# Altium footprint library MDBU014A.PcbLib: 53 footprints (part 4 of 4)
Each footprint in its own frame and in the unit in brackets; x right, y up, seen from the top. Pads: shape width x height; smd on the part's side, far side on the other; paste and mask are expansions set on the pad; w line width, h text height; cw(c..) or ccw(c..) is an arc to the next point about the centre after c.
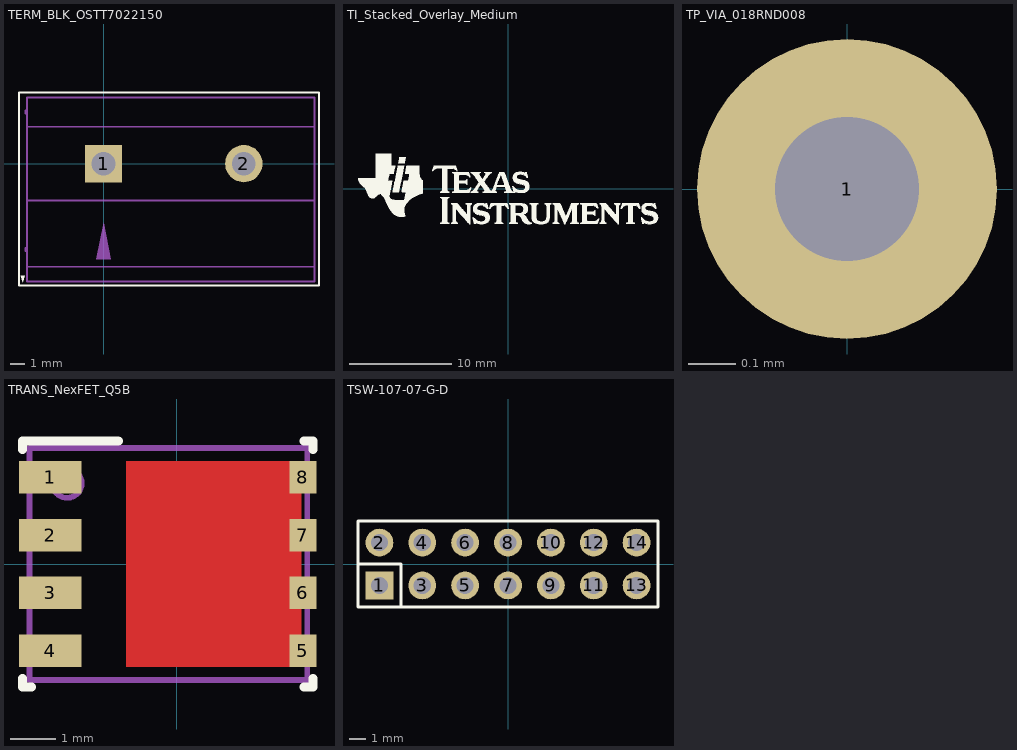
[diagram p3: the footprints below, top view; thin cyan lines are the x and y axes]

## TERM_BLK_OSTT7022150 [mm]
pads (2):
  rect 2.54x2.54 hole 1.6: 1(0,0)
  round 2.54 hole 1.6: 2(9.525,0)
Top Overlay:
  region: -5.483,-8.048 -5.33,-7.616 -5.61,-7.616
  lines w0.127: -5.737,-8.276 14.63,-8.276 14.63,4.83 -5.737,4.83 -5.737,3.941 -5.737,3.103 -5.737,-5.381 -5.737,-6.219 -5.737,-8.276
Mechanical 5:
  circle w0.127: c0,0 r0.4
  circle w0.127: c9.52,0 r0.4
  region: -0.5,-6.5 0,-4 0.5,-6.5
  lines w0.127: -5.2,-7 14.325,-7 ; -5.2,-5.925 -5.3,-5.925 -5.3,-5.725 -5.2,-5.725 ; -5.2,-2.5 14.325,-2.5 ; -5.2,2.5 14.325,2.5 ; -5.2,3.4 -5.3,3.4 -5.3,3.6 -5.2,3.6 ; -5.2,-8 14.325,-8 14.325,4.5 -5.2,4.5 -5.2,-8
  text ".Designator" at 2.845,-0.711 h1.02
3D body: height 0, standoff -4.2, extent 9.024,-0.499 10.02,0.499
3D body: height 0, standoff -4.2, extent -0.496,-0.499 0.5,0.499
3D body: height 11, standoff 0, extent -5.3,3.4 -5.2,3.6
3D body: height 12, standoff 0, extent -5.3,-5.925 -5.2,-5.725
3D body: height 21.5, standoff 0, extent -5.2,-2.5 14.325,2.5
3D body: height 11, standoff 0, extent -5.2,2.5 14.325,4.5
3D body: height 12, standoff 10, extent -5.2,-8 14.325,-2.5
3D body: height 21.6, standoff 1.6, extent -2.232,-2.245 2.25,2.246
3D body: height 21.6, standoff 1.6, extent 7.293,-2.245 11.775,2.246
3D body: height 2, standoff 0, extent -5.195,-8 14.325,-2.5
3D body: height 12, standoff 0, extent -5.2,-8 -2.6,-2.5
3D body: height 12, standoff 0, extent 2.6,-8 4.76,-2.5
3D body: height 12, standoff 0, extent 4.76,-8 6.92,-2.5
3D body: height 12, standoff 0, extent 12.125,-8 14.325,-2.5

## TI_Stacked_Overlay_Medium [mm]
Top Overlay:
  drawing of 18 lines, arcs and shapes, not listed

## TP_VIA_018RND008 [mil]
pads (1):
  round 25 hole 12: 1(0,0)

## TRANS_NexFET_Q5B [mm]
pads (8):
  rect 1.372x0.71 smd paste-0.4: 1(-2.776,1.905) 2(-2.776,0.635) 3(-2.776,-0.635) 4(-2.776,-1.905)
  rect 0.59x0.71 smd paste-0.3: 5(2.776,-1.905) 6(2.776,-0.635) 7(2.776,0.635) 8(2.776,1.905)
Top Layer:
  rectangle: -1.106,-2.26 2.744,2.26
Top Overlay:
  lines w0.2: -3.385,-2.52 -3.385,-2.7 -3.185,-2.7 ; -3.385,2.52 -3.385,2.7 -1.28,2.7 ; 2.8,-2.7 3,-2.7 3,-2.52 ; 2.8,2.7 3,2.7 3,2.52
Top Paste:
  rectangle: 0.723,0.15 2.017,0.896
  region: 0.373,0.896 -0.921,0.896 -0.921,0.15 0.373,0.15
  region: 0.373,-0.15 -0.921,-0.15 -0.921,-0.896 0.373,-0.896
  rectangle: 0.723,-0.896 2.017,-0.15
  region: 0.373,1.942 -0.921,1.942 -0.921,1.196 0.373,1.196
  rectangle: 0.723,1.196 2.017,1.942
  region: 0.373,-1.196 -0.921,-1.196 -0.921,-1.942 0.373,-1.942
  rectangle: 0.723,-1.942 2.017,-1.196
  rectangle: -3.312,1.624 -2.24,2.186
  rectangle: -3.312,0.354 -2.24,0.916
  rectangle: -3.312,-0.916 -2.24,-0.354
  rectangle: -3.312,-2.186 -2.24,-1.624
  rectangle: 2.303,1.651 3.069,2.159
  rectangle: 2.303,0.381 3.069,0.889
  rectangle: 2.303,-0.889 3.069,-0.381
  rectangle: 2.303,-2.159 3.069,-1.651
Mechanical 5:
  circle w0.127: c-2.405,1.775 r0.32
  lines w0.127: -3.23,-2.55 -3.23,2.55 2.875,2.55 2.875,-2.55 -3.23,-2.55
  text ".Designator" at -2.085,-0.505 h1.02
3D body: height 1.05, standoff 0, extent -3.229,-2.549 2.874,2.549
3D body: height 1.06, standoff 1, extent -2.725,1.455 -2.085,2.095

## TSW-107-07-G-D [mm]
pads (14):
  rect 1.65x1.65 hole 1.016 mask+0: 1(-7.62,-1.27)
  round 1.65 hole 1.016 mask+0: 2(-7.62,1.27) 3(-5.08,-1.27) 4(-5.08,1.27) 5(-2.54,-1.27) 6(-2.54,1.27) 7(0,-1.27) 8(0,1.27) 9(2.54,-1.27) 10(2.54,1.27) 11(5.08,-1.27) 12(5.08,1.27) 13(7.62,-1.27) 14(7.62,1.27)
Top Overlay:
  lines w0.178: -8.89,0 -6.35,0 -6.35,-2.54 ; -8.89,-2.54 8.89,-2.54 8.89,2.54 -8.89,2.54 -8.89,-2.54
Mechanical 5:
  rectangle: -8.128,-1.778 -7.112,-0.762
  lines w0.127: -8.89,-2.54 -8.89,2.54 8.89,2.54 8.89,-2.54 -8.89,-2.54
  text ".Designator" at -1.524,-0.508 h1.02
3D body "SamtecTSW-07_7x2.stp": height 8.38, standoff -2.54, extent -8.89,-2.54 8.89,2.54